# Altium footprint library Potentiometer_THT.PcbLib: 106 footprints (part 3 of 7)
Each footprint in its own frame and in the unit in brackets; x right, y up, seen from the top. Pads: shape width x height; smd on the part's side, far side on the other; paste and mask are expansions set on the pad; w line width, h text height; cw(c..) or ccw(c..) is an arc to the next point about the centre after c.
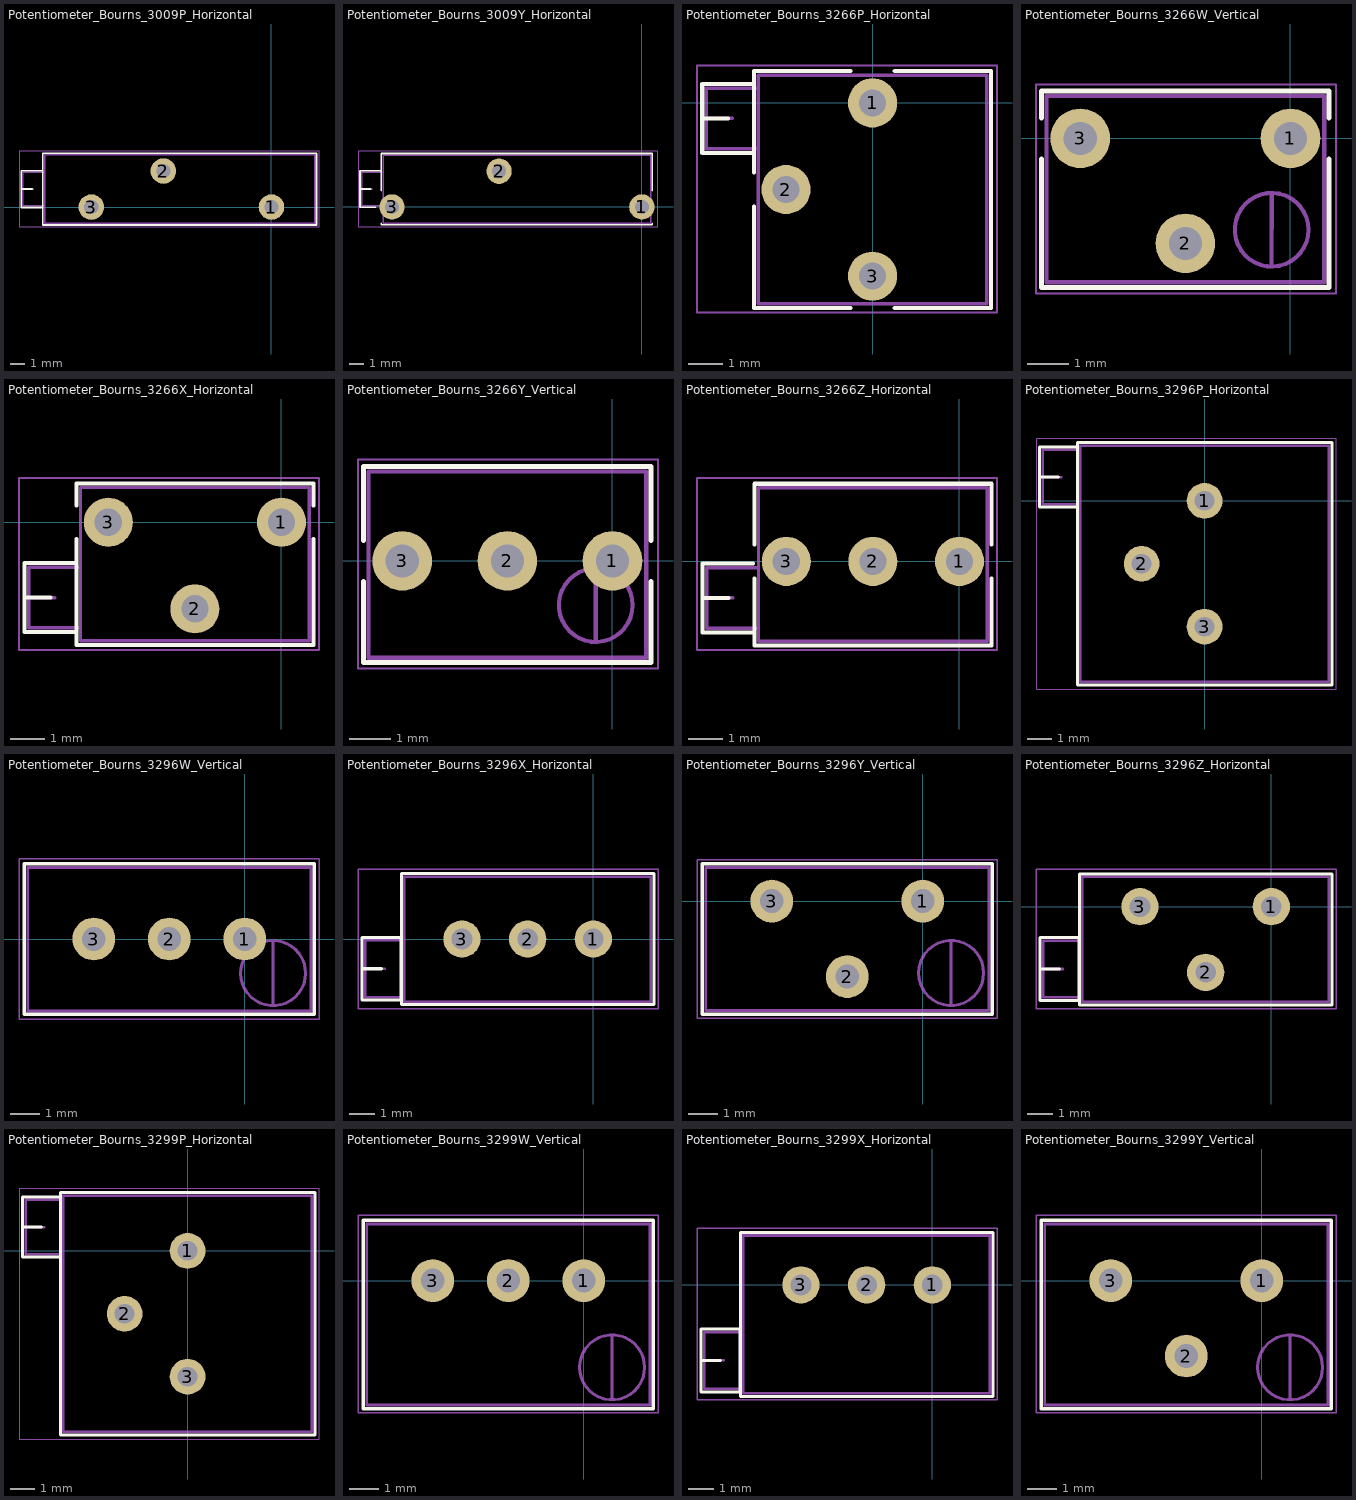
[diagram p2: the footprints below, top view; thin cyan lines are the x and y axes]

## Potentiometer_Bourns_3009P_Horizontal [mm]
pads (3):
  round 1.8 hole 1: 1(0,0) 2(-7.62,2.54) 3(-12.7,0)
F.SilkS:
  lines w0.12: -17.64,1.27 -16.881,1.27 ; -17.64,-0.03 -16.121,-0.03 -16.121,2.569 -17.64,2.569 -17.64,-0.03 ; -16.12,-1.265 -16.12,3.805 3.17,3.805 3.17,-1.265 -16.12,-1.265
F.CrtYd:
  lines w0.05: -17.8,-1.4 -17.8,3.95 3.35,3.95 3.35,-1.4 -17.8,-1.4
F.Fab:
  lines w0.1: -17.52,1.27 -16.76,1.27 ; -17.52,0.09 -17.52,2.45 -16,2.45 -16,0.09 -17.52,0.09 ; -16,-1.145 3.05,-1.145 3.05,3.685 -16,3.685 -16,-1.145
  text "'.Designator'" at -10.522,0.43 h1

## Potentiometer_Bourns_3009Y_Horizontal [mm]
pads (3):
  round 1.8 hole 1: 1(0,0) 2(-10.16,2.54) 3(-17.78,0)
F.SilkS:
  lines w0.12: -20.06,1.27 -19.301,1.27 ; -18.935,-0.03 -20.06,-0.03 -20.06,2.569 -18.541,2.569 -18.541,1.155 ; -18.54,-1.155 -18.54,-1.265 0.75,-1.265 0.75,-1.155 ; -18.54,1.155 -18.54,3.805 0.75,3.805 0.75,1.155
F.CrtYd:
  lines w0.05: -20.2,-1.4 1.15,-1.4 1.15,3.95 -20.2,3.95 -20.2,-1.4
F.Fab:
  lines w0.1: -19.94,1.27 -19.18,1.27 ; -19.94,0.09 -19.94,2.45 -18.42,2.45 -18.42,0.09 -19.94,0.09 ; -18.42,-1.145 0.63,-1.145 0.63,3.685 -18.42,3.685 -18.42,-1.145
  text "'.Designator'" at -12.942,0.43 h1

## Potentiometer_Bourns_3266P_Horizontal [mm]
pads (3):
  round 1.44 hole 0.8: 1(0,0) 2(-2.54,-2.54) 3(0,-5.08)
F.SilkS:
  lines w0.12: -4.995,-0.455 -4.236,-0.455 ; -3.475,-3.036 -3.475,-6.015 -0.649,-6.015 ; -3.475,-2.045 -3.475,0.935 -0.649,0.935 ; 0.65,-6.015 3.475,-6.015 3.475,0.935 0.65,0.935 ; -4.995,-1.465 -3.476,-1.465 -3.476,0.555 -4.995,0.555 -4.995,-1.465
F.CrtYd:
  lines w0.05: -5.15,-6.15 3.65,-6.15 3.65,1.1 -5.15,1.1 -5.15,-6.15
F.Fab:
  lines w0.1: -4.875,-0.455 -4.115,-0.455 ; -4.875,-1.345 -3.355,-1.345 -3.355,0.435 -4.875,0.435 -4.875,-1.345 ; -3.355,-5.895 3.355,-5.895 3.355,0.815 -3.355,0.815 -3.355,-5.895
  text "'.Designator'" at -4.047,-3.38 h1

## Potentiometer_Bourns_3266W_Vertical [mm]
pads (3):
  round 1.44 hole 0.8: 1(0,0) 2(-2.54,-2.54) 3(-5.08,0)
F.SilkS:
  lines w0.12: -6.015,-0.495 -6.015,-3.6 0.935,-3.6 0.935,-0.495 ; -6.015,0.495 -6.015,1.14 0.935,1.14 0.935,0.495
F.CrtYd:
  lines w0.05: -6.15,-3.75 1.1,-3.75 1.1,1.3 -6.15,1.3 -6.15,-3.75
F.Fab:
  circle w0.1: c-0.455,-2.21 r0.89
  lines w0.1: -5.895,-3.48 -5.895,1.02 0.815,1.02 0.815,-3.48 -5.895,-3.48 ; -0.455,-3.092 -0.454,-1.329 -0.455,-3.092
  text "'.Designator'" at -6.871,-2.008 h0.91

## Potentiometer_Bourns_3266X_Horizontal [mm]
pads (3):
  round 1.44 hole 0.8: 1(0,0) 2(-2.54,-2.54) 3(-5.08,0)
F.SilkS:
  lines w0.12: -7.535,-2.21 -6.776,-2.21 ; -6.015,-0.495 -6.015,-3.6 0.935,-3.6 0.935,-0.495 ; -6.015,0.495 -6.015,1.14 0.935,1.14 0.935,0.495 ; -7.535,-3.22 -6.016,-3.22 -6.016,-1.2 -7.535,-1.2 -7.535,-3.22
F.CrtYd:
  lines w0.05: -7.7,-3.75 1.1,-3.75 1.1,1.3 -7.7,1.3 -7.7,-3.75
F.Fab:
  lines w0.1: -7.415,-2.21 -6.655,-2.21 ; -7.415,-3.1 -7.415,-1.32 -5.895,-1.32 -5.895,-3.1 -7.415,-3.1 ; -5.895,-3.48 -5.895,1.02 0.815,1.02 0.815,-3.48 -5.895,-3.48
  text "'.Designator'" at -6.587,-2.07 h1

## Potentiometer_Bourns_3266Y_Vertical [mm]
pads (3):
  round 1.44 hole 0.8: 1(0,0) 2(-2.54,0) 3(-5.08,0)
F.SilkS:
  lines w0.12: -6.015,-0.496 -6.015,-2.46 0.935,-2.46 0.935,-0.496 ; -6.015,0.494 -6.015,2.28 0.935,2.28 0.935,0.494
F.CrtYd:
  lines w0.05: -6.15,-2.6 1.1,-2.6 1.1,2.45 -6.15,2.45 -6.15,-2.6
F.Fab:
  circle w0.1: c-0.405,-1.07 r0.89
  lines w0.1: -5.895,-2.34 -5.895,2.16 0.815,2.16 0.815,-2.34 -5.895,-2.34 ; -0.405,-1.952 -0.404,-0.189 -0.405,-1.952
  text "'.Designator'" at -6.885,-0.875 h0.92

## Potentiometer_Bourns_3266Z_Horizontal [mm]
pads (3):
  round 1.44 hole 0.8: 1(0,0) 2(-2.54,0) 3(-5.08,0)
F.SilkS:
  lines w0.12: -7.535,-1.07 -6.776,-1.07 ; -6.056,-0.06 -7.535,-0.06 -7.535,-2.08 -6.016,-2.08 -6.016,-0.496 ; -6.015,-0.496 -6.015,-2.46 0.935,-2.46 0.935,-0.496 ; -6.015,0.494 -6.015,2.28 0.935,2.28 0.935,0.494
F.CrtYd:
  lines w0.05: -7.7,-2.6 -7.7,2.45 1.1,2.45 1.1,-2.6 -7.7,-2.6
F.Fab:
  lines w0.1: -7.415,-1.07 -6.655,-1.07 ; -7.415,-1.96 -5.895,-1.96 -5.895,-0.18 -7.415,-0.18 -7.415,-1.96 ; -5.895,-2.34 0.815,-2.34 0.815,2.16 -5.895,2.16 -5.895,-2.34
  text "'.Designator'" at -6.587,-0.93 h1

## Potentiometer_Bourns_3296P_Horizontal [mm]
pads (3):
  round 1.44 hole 0.8: 1(0,0) 2(-2.54,-2.54) 3(0,-5.08)
F.SilkS:
  lines w0.12: -6.655,0.955 -5.896,0.955 ; -6.655,-0.26 -6.655,2.169 -5.136,2.169 -5.136,-0.26 -6.655,-0.26 ; -5.135,-7.425 5.135,-7.425 5.135,2.345 -5.135,2.345 -5.135,-7.425
F.CrtYd:
  lines w0.05: -6.8,-7.6 5.3,-7.6 5.3,2.5 -6.8,2.5 -6.8,-7.6
F.Fab:
  lines w0.1: -6.535,0.955 -5.775,0.955 ; -6.535,-0.14 -5.015,-0.14 -5.015,2.05 -6.535,2.05 -6.535,-0.14 ; -5.015,-7.305 5.015,-7.305 5.015,2.225 -5.015,2.225 -5.015,-7.305
  text "'.Designator'" at -4.047,-3.38 h1

## Potentiometer_Bourns_3296W_Vertical [mm]
pads (3):
  round 1.44 hole 0.8: 1(0,0) 2(-2.54,0) 3(-5.08,0)
F.SilkS:
  lines w0.12: -7.425,-2.54 -7.425,2.53 2.345,2.53 2.345,-2.54 -7.425,-2.54
F.CrtYd:
  lines w0.05: -7.6,-2.7 2.5,-2.7 2.5,2.7 -7.6,2.7 -7.6,-2.7
F.Fab:
  circle w0.1: c0.955,-1.15 r1.095
  lines w0.1: -7.305,-2.42 -7.305,2.41 2.225,2.41 2.225,-2.42 -7.305,-2.42 ; 0.955,-2.235 0.956,-0.066 0.955,-2.235
  text "'.Designator'" at -7.222,-0.845 h1

## Potentiometer_Bourns_3296X_Horizontal [mm]
pads (3):
  round 1.44 hole 0.8: 1(0,0) 2(-2.54,0) 3(-5.08,0)
F.SilkS:
  lines w0.12: -8.945,-1.15 -8.186,-1.15 ; -8.945,-2.365 -8.945,0.065 -7.426,0.065 -7.426,-2.365 -8.945,-2.365 ; -7.425,-2.54 2.345,-2.54 2.345,2.53 -7.425,2.53 -7.425,-2.54
F.CrtYd:
  lines w0.05: -9.1,-2.7 -9.1,2.7 2.5,2.7 2.5,-2.7 -9.1,-2.7
F.Fab:
  lines w0.1: -8.825,-1.15 -8.065,-1.15 ; -8.825,-2.245 -7.305,-2.245 -7.305,-0.055 -8.825,-0.055 -8.825,-2.245 ; -7.305,-2.42 -7.305,2.41 2.225,2.41 2.225,-2.42 -7.305,-2.42
  text "'.Designator'" at -6.587,-0.845 h1

## Potentiometer_Bourns_3296Y_Vertical [mm]
pads (3):
  round 1.44 hole 0.8: 1(0,0) 2(-2.54,-2.54) 3(-5.08,0)
F.SilkS:
  lines w0.12: -7.425,-3.81 -7.425,1.26 2.345,1.26 2.345,-3.81 -7.425,-3.81
F.CrtYd:
  lines w0.05: -7.6,-3.95 2.5,-3.95 2.5,1.4 -7.6,1.4 -7.6,-3.95
F.Fab:
  circle w0.1: c0.955,-2.42 r1.095
  lines w0.1: -7.305,-3.69 -7.305,1.14 2.225,1.14 2.225,-3.69 -7.305,-3.69 ; 0.955,-3.505 0.956,-1.336 0.955,-3.505
  text "'.Designator'" at -7.222,-2.115 h1

## Potentiometer_Bourns_3296Z_Horizontal [mm]
pads (3):
  round 1.44 hole 0.8: 1(0,0) 2(-2.54,-2.54) 3(-5.08,0)
F.SilkS:
  lines w0.12: -8.945,-2.41 -8.186,-2.41 ; -8.945,-3.625 -8.945,-1.195 -7.426,-1.195 -7.426,-3.625 -8.945,-3.625 ; -7.425,-3.8 2.345,-3.8 2.345,1.27 -7.425,1.27 -7.425,-3.8
F.CrtYd:
  lines w0.05: -9.1,-3.95 2.5,-3.95 2.5,1.45 -9.1,1.45 -9.1,-3.95
F.Fab:
  lines w0.1: -8.825,-2.41 -8.065,-2.41 ; -8.825,-3.505 -8.825,-1.315 -7.305,-1.315 -7.305,-3.505 -8.825,-3.505 ; -7.305,-3.68 2.225,-3.68 2.225,1.15 -7.305,1.15 -7.305,-3.68
  text "'.Designator'" at -6.587,-2.105 h1

## Potentiometer_Bourns_3299P_Horizontal [mm]
pads (3):
  round 1.44 hole 0.8: 1(0,0) 2(-2.54,-2.54) 3(0,-5.08)
F.SilkS:
  lines w0.12: -6.655,0.955 -5.896,0.955 ; -6.655,-0.26 -6.655,2.169 -5.136,2.169 -5.136,-0.26 -6.655,-0.26 ; -5.135,-7.425 5.135,-7.425 5.135,2.345 -5.135,2.345 -5.135,-7.425
F.CrtYd:
  lines w0.05: -6.8,-7.6 5.3,-7.6 5.3,2.5 -6.8,2.5 -6.8,-7.6
F.Fab:
  lines w0.1: -6.535,0.955 -5.775,0.955 ; -6.535,-0.14 -5.015,-0.14 -5.015,2.05 -6.535,2.05 -6.535,-0.14 ; -5.015,-7.305 -5.015,2.225 5.015,2.225 5.015,-7.305 -5.015,-7.305
  text "'.Designator'" at -4.047,-3.38 h1

## Potentiometer_Bourns_3299W_Vertical [mm]
pads (3):
  round 1.44 hole 0.8: 1(0,0) 2(-2.54,0) 3(-5.08,0)
F.SilkS:
  lines w0.12: -7.425,-4.31 -7.425,2.03 2.345,2.03 2.345,-4.31 -7.425,-4.31
F.CrtYd:
  lines w0.05: -7.6,-4.45 -7.6,2.2 2.5,2.2 2.5,-4.45 -7.6,-4.45
F.Fab:
  circle w0.1: c0.955,-2.92 r1.095
  lines w0.1: -7.305,-4.19 -7.305,1.91 2.225,1.91 2.225,-4.19 -7.305,-4.19 ; 0.955,-4.005 0.956,-1.836 0.955,-4.005
  text "'.Designator'" at -7.222,-1.98 h1

## Potentiometer_Bourns_3299X_Horizontal [mm]
pads (3):
  round 1.44 hole 0.8: 1(0,0) 2(-2.54,0) 3(-5.08,0)
F.SilkS:
  lines w0.12: -8.945,-2.92 -8.186,-2.92 ; -8.945,-4.135 -7.426,-4.135 -7.426,-1.705 -8.945,-1.705 -8.945,-4.135 ; -7.425,-4.31 -7.425,2.03 2.345,2.03 2.345,-4.31 -7.425,-4.31
F.CrtYd:
  lines w0.05: -9.1,-4.45 -9.1,2.2 2.5,2.2 2.5,-4.45 -9.1,-4.45
F.Fab:
  lines w0.1: -8.825,-2.92 -8.065,-2.92 ; -8.825,-4.015 -8.825,-1.825 -7.305,-1.825 -7.305,-4.015 -8.825,-4.015 ; -7.305,-4.19 -7.305,1.91 2.225,1.91 2.225,-4.19 -7.305,-4.19
  text "'.Designator'" at -6.587,-1.98 h1

## Potentiometer_Bourns_3299Y_Vertical [mm]
pads (3):
  round 1.44 hole 0.8: 1(0,0) 2(-2.54,-2.54) 3(-5.08,0)
F.SilkS:
  lines w0.12: -7.425,-4.31 2.345,-4.31 2.345,2.03 -7.425,2.03 -7.425,-4.31
F.CrtYd:
  lines w0.05: -7.6,-4.45 -7.6,2.2 2.5,2.2 2.5,-4.45 -7.6,-4.45
F.Fab:
  circle w0.1: c0.955,-2.92 r1.095
  lines w0.1: -7.305,-4.19 2.225,-4.19 2.225,1.91 -7.305,1.91 -7.305,-4.19 ; 0.955,-4.005 0.956,-1.836 0.955,-4.005
  text "'.Designator'" at -7.222,-1.98 h1